# EAGLE library part 691412120012 (library Wurth_Terminal_Blocks_Connectors_rev15d)
WR-TBL Serie 412 - 3.5mm Screwless 45° Entry Grey - 1.5mm2 Wires, 12 Pins
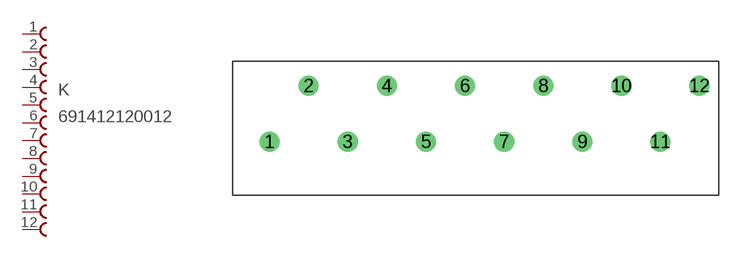
[diagram p219: symbol with the pads of 691412120012; footprint 691412120012]

Designator prefix K

## 691412120012  [691412120012]
1  1  pas
2  2  pas
3  3  pas
4  4  pas
5  5  pas
6  6  pas
7  7  pas
8  8  pas
9  9  pas
10  10  pas
11  11  pas
12  12  pas

## Footprint 691412120012 (pad centres in mm)
WR-TBL Serie 412 - 3.5mm Screwless 45° Entry Grey - 1.5mm2 Wires, 12 Pins
drill 1.2: 1 -34.97,0; 2 -31.47,5; 3 -27.97,0; 4 -24.47,5; 5 -20.97,0; 6 -17.47,5; 7 -13.97,0; 8 -10.47,5; 9 -6.97,0; 10 -3.47,5; 11 0,0; 12 3.5,5